# Altium footprint library Passives.PcbLib: 1 footprints
Each footprint in its own frame and in the unit in brackets; x right, y up, seen from the top. Pads: shape width x height; smd on the part's side, far side on the other; paste and mask are expansions set on the pad; w line width, h text height; cw(c..) or ccw(c..) is an arc to the next point about the centre after c.
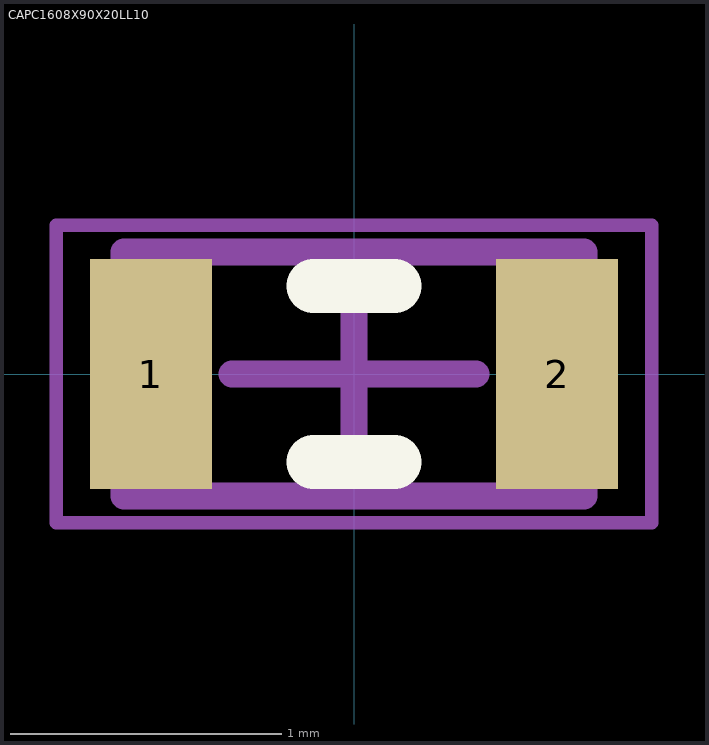
[diagram p0: the footprint, top view; thin cyan lines are the x and y axes]

## CAPC1608X90X20LL10 [mm]
height 0.9
pads (2):
  rect 0.45x0.85 smd: 1(-0.75,0) 2(0.75,0)
Top Overlay:
  lines w0.2: -0.15,-0.325 0.15,-0.325 ; -0.15,0.325 0.15,0.325
Mechanical 13:
  lines w0.1: -0.85,-0.45 -0.85,0.45 0.85,0.45 0.85,-0.45 -0.85,-0.45
Mechanical 15:
  lines w0.05: -1.1,-0.55 -1.1,0.55 1.1,0.55 1.1,-0.55 -1.1,-0.55
  lines w0.1: -0.45,0 0.45,0 ; 0,-0.45 0,0.45
3D body: height 0.9, standoff 0, extent -0.65,-0.45 0.65,0.45
3D body: height 0.9, standoff 0, extent -0.85,-0.45 -0.65,0.45
3D body: height 0.9, standoff 0, extent 0.65,-0.45 0.85,0.45